# Altium schematic symbol library BAT760-7.Schlib: 1 symbol
Pins are listed as number, name and electrical type; pins without a type are passive.

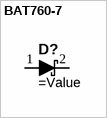
[diagram p0: symbol BAT760-7]

## BAT760-7
designator D?
DIODE SCHOTTKY 30V 1A SOD323
pins: 1 A, 2 K